# EAGLE library part OPENPILOT_FGPMMOPA6B (library MobSenDat2)
GTOP FGPMMOPA6B GPS POT (Patch-On-Top) Module 66-channel GPS Engine Board
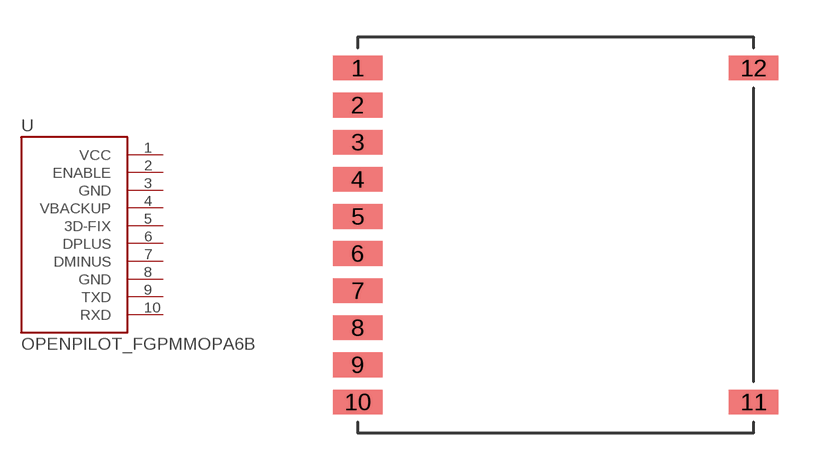
[diagram p0: symbol with the pads of OPENPILOT_GTOP-FGPMMOPA6B; footprint OPENPILOT_GTOP-FGPMMOPA6B]

Designator prefix U

## OPENPILOT_FGPMMOPA6B  [OPENPILOT_GTOP-FGPMMOPA6B]
1  VCC  pwr
2  ENABLE  in
3  GND  pwr
4  VBACKUP  pwr
5  3D-FIX
6  DPLUS
7  DMINUS
8  GND  pwr
9  TXD
10  RXD

## Footprint OPENPILOT_GTOP-FGPMMOPA6B (pad centres in mm)
smd 2 x 1: 1 -8,6.75; 2 -8,5.25; 3 -8,3.75; 4 -8,2.25; 5 -8,0.75; 6 -8,-0.75; 7 -8,-2.25; 8 -8,-3.75; 9 -8,-5.25; 10 -8,-6.75; 11 8,-6.75; 12 8,6.75